# EAGLE library part DF13-13P-1.25 (library con-hirose-df13)
DF13-13P 1.25mm Pitch Miniature Crimping Connector.
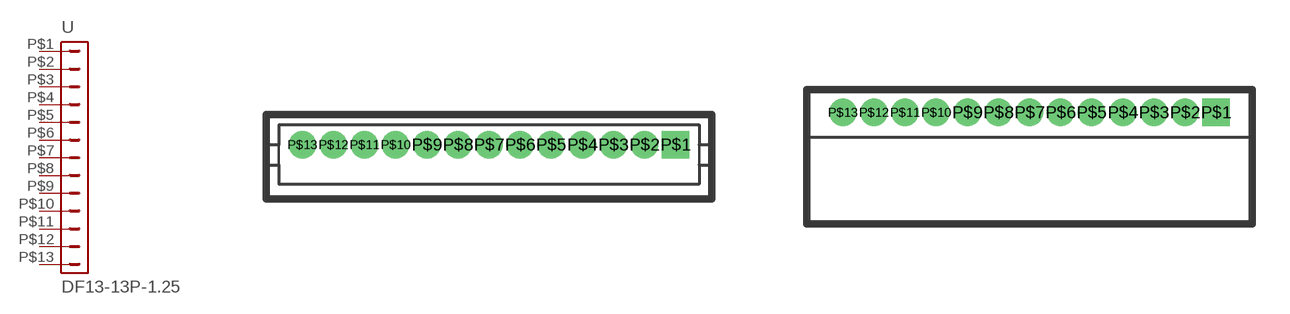
[diagram p7: symbol with the pads of DF13-13P-1.25DSA; footprints DF13-13P-1.25DSA, DF13-13P-1.25DS]

Designator prefix -

## DF13-13P-1.25DSA  [DF13-13P-1.25DSA]
P$1  1  pas
P$2  2  pas
P$3  3  pas
P$4  4  pas
P$5  5  pas
P$6  6  pas
P$7  7  pas
P$8  8  pas
P$9  9  pas
P$10  10  pas
P$11  11  pas
P$12  12  pas
P$13  13  pas

## DF13-13P-1.25DS  [DF13-13P-1.25DS]
Pads as for DF13-13P-1.25DSA

## Footprint DF13-13P-1.25DSA (pad centres in mm)
Single Row Straight Pin Header (Through hole)
drill 0.6 pad 1.016 square: P$1 7.5,0
drill 0.6 pad 1.016: P$2 6.25,0; P$3 5,0; P$4 3.75,0; P$5 2.5,0; P$6 1.25,0; P$7 0,0; P$8 -1.25,0; P$9 -2.5,0; P$10 -3.75,0; P$11 -5,0; P$12 -6.25,0; P$13 -7.5,0

## Footprint DF13-13P-1.25DS (pad centres in mm)
Single Row Right Angle Pin Header (Through hole)
drill 0.6 pad 1.016 square: P$1 7.5,0
drill 0.6 pad 1.016: P$2 6.25,0; P$3 5,0; P$4 3.75,0; P$5 2.5,0; P$6 1.25,0; P$7 0,0; P$8 -1.25,0; P$9 -2.5,0; P$10 -3.75,0; P$11 -5,0; P$12 -6.25,0; P$13 -7.5,0